# Altium footprint library QFN40P700X700X90-57N-D.PcbLib: 1 footprints
Each footprint in its own frame and in the unit in brackets; x right, y up, seen from the top. Pads: shape width x height; smd on the part's side, far side on the other; paste and mask are expansions set on the pad; w line width, h text height; cw(c..) or ccw(c..) is an arc to the next point about the centre after c.
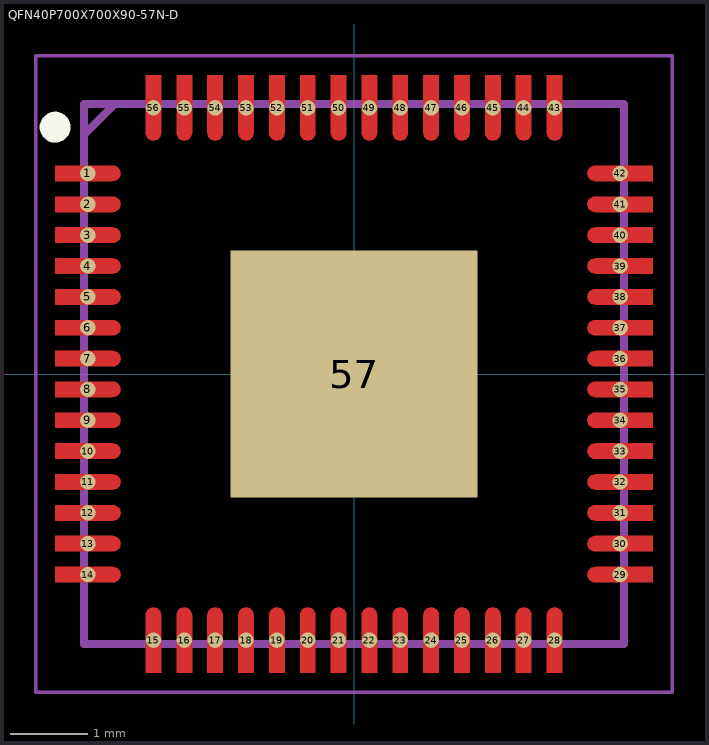
[diagram p0: the footprint, top view; thin cyan lines are the x and y axes]

## QFN40P700X700X90-57N-D [mm]
pads (57):
  round 0.2 smd: 1(-3.45,2.6) 2(-3.45,2.2) 3(-3.45,1.8) 4(-3.45,1.4) 5(-3.45,1) 6(-3.45,0.6) 7(-3.45,0.2) 8(-3.45,-0.2) 9(-3.45,-0.6) 10(-3.45,-1) 11(-3.45,-1.4) 12(-3.45,-1.8) 13(-3.45,-2.2) 14(-3.45,-2.6) 15(-2.6,-3.45) 16(-2.2,-3.45) 17(-1.8,-3.45) 18(-1.4,-3.45) 19(-1,-3.45) 20(-0.6,-3.45) 21(-0.2,-3.45) 22(0.2,-3.45) 23(0.6,-3.45) 24(1,-3.45) 25(1.4,-3.45) 26(1.8,-3.45) 27(2.2,-3.45) 28(2.6,-3.45) 29(3.45,-2.6) 30(3.45,-2.2) 31(3.45,-1.8) 32(3.45,-1.4) 33(3.45,-1) 34(3.45,-0.6) 35(3.45,-0.2) 36(3.45,0.2) 37(3.45,0.6) 38(3.45,1) 39(3.45,1.4) 40(3.45,1.8) 41(3.45,2.2) 42(3.45,2.6) 43(2.6,3.45) 44(2.2,3.45) 45(1.8,3.45) 46(1.4,3.45) 47(1,3.45) 48(0.6,3.45) 49(0.2,3.45) 50(-0.2,3.45) 51(-0.6,3.45) 52(-1,3.45) 53(-1.4,3.45) 54(-1.8,3.45) 55(-2.2,3.45) 56(-2.6,3.45)
  rect 3.2x3.2 smd: 57(0,0)
L1-Top Layer:
  region: -3.875,2.7 -3.125,2.7 -3.099,2.697 -3.075,2.687 -3.054,2.671 -3.038,2.65 -3.028,2.626 -3.025,2.6 -3.028,2.574 -3.038,2.55 -3.054,2.529 -3.075,2.513 -3.099,2.503 -3.125,2.5 -3.875,2.5
  region: -3.875,2.3 -3.125,2.3 -3.099,2.297 -3.075,2.287 -3.054,2.271 -3.038,2.25 -3.028,2.226 -3.025,2.2 -3.028,2.174 -3.038,2.15 -3.054,2.129 -3.075,2.113 -3.099,2.103 -3.125,2.1 -3.875,2.1
  region: -3.875,1.9 -3.125,1.9 -3.099,1.897 -3.075,1.887 -3.054,1.871 -3.038,1.85 -3.028,1.826 -3.025,1.8 -3.028,1.774 -3.038,1.75 -3.054,1.729 -3.075,1.713 -3.099,1.703 -3.125,1.7 -3.875,1.7
  region: -3.875,1.5 -3.125,1.5 -3.099,1.497 -3.075,1.487 -3.054,1.471 -3.038,1.45 -3.028,1.426 -3.025,1.4 -3.028,1.374 -3.038,1.35 -3.054,1.329 -3.075,1.313 -3.099,1.303 -3.125,1.3 -3.875,1.3
  region: -3.875,1.1 -3.125,1.1 -3.099,1.097 -3.075,1.087 -3.054,1.071 -3.038,1.05 -3.028,1.026 -3.025,1 -3.028,0.974 -3.038,0.95 -3.054,0.929 -3.075,0.913 -3.099,0.903 -3.125,0.9 -3.875,0.9
  region: -3.875,0.7 -3.125,0.7 -3.099,0.697 -3.075,0.687 -3.054,0.671 -3.038,0.65 -3.028,0.626 -3.025,0.6 -3.028,0.574 -3.038,0.55 -3.054,0.529 -3.075,0.513 -3.099,0.503 -3.125,0.5 -3.875,0.5
  region: -3.875,0.3 -3.125,0.3 -3.099,0.297 -3.075,0.287 -3.054,0.271 -3.038,0.25 -3.028,0.226 -3.025,0.2 -3.028,0.174 -3.038,0.15 -3.054,0.129 -3.075,0.113 -3.099,0.103 -3.125,0.1 -3.875,0.1
  region: -3.875,-0.1 -3.125,-0.1 -3.099,-0.103 -3.075,-0.113 -3.054,-0.129 -3.038,-0.15 -3.028,-0.174 -3.025,-0.2 -3.028,-0.226 -3.038,-0.25 -3.054,-0.271 -3.075,-0.287 -3.099,-0.297 -3.125,-0.3 -3.875,-0.3
  region: -3.875,-0.5 -3.125,-0.5 -3.099,-0.503 -3.075,-0.513 -3.054,-0.529 -3.038,-0.55 -3.028,-0.574 -3.025,-0.6 -3.028,-0.626 -3.038,-0.65 -3.054,-0.671 -3.075,-0.687 -3.099,-0.697 -3.125,-0.7 -3.875,-0.7
  region: -3.875,-0.9 -3.125,-0.9 -3.099,-0.903 -3.075,-0.913 -3.054,-0.929 -3.038,-0.95 -3.028,-0.974 -3.025,-1 -3.028,-1.026 -3.038,-1.05 -3.054,-1.071 -3.075,-1.087 -3.099,-1.097 -3.125,-1.1 -3.875,-1.1
  region: -3.875,-1.3 -3.125,-1.3 -3.099,-1.303 -3.075,-1.313 -3.054,-1.329 -3.038,-1.35 -3.028,-1.374 -3.025,-1.4 -3.028,-1.426 -3.038,-1.45 -3.054,-1.471 -3.075,-1.487 -3.099,-1.497 -3.125,-1.5 -3.875,-1.5
  region: -3.875,-1.7 -3.125,-1.7 -3.099,-1.703 -3.075,-1.713 -3.054,-1.729 -3.038,-1.75 -3.028,-1.774 -3.025,-1.8 -3.028,-1.826 -3.038,-1.85 -3.054,-1.871 -3.075,-1.887 -3.099,-1.897 -3.125,-1.9 -3.875,-1.9
  region: -3.875,-2.1 -3.125,-2.1 -3.099,-2.103 -3.075,-2.113 -3.054,-2.129 -3.038,-2.15 -3.028,-2.174 -3.025,-2.2 -3.028,-2.226 -3.038,-2.25 -3.054,-2.271 -3.075,-2.287 -3.099,-2.297 -3.125,-2.3 -3.875,-2.3
  region: -3.875,-2.5 -3.125,-2.5 -3.099,-2.503 -3.075,-2.513 -3.054,-2.529 -3.038,-2.55 -3.028,-2.574 -3.025,-2.6 -3.028,-2.626 -3.038,-2.65 -3.054,-2.671 -3.075,-2.687 -3.099,-2.697 -3.125,-2.7 -3.875,-2.7
  region: -2.7,-3.875 -2.7,-3.125 -2.697,-3.099 -2.687,-3.075 -2.671,-3.054 -2.65,-3.038 -2.626,-3.028 -2.6,-3.025 -2.574,-3.028 -2.55,-3.038 -2.529,-3.054 -2.513,-3.075 -2.503,-3.099 -2.5,-3.125 -2.5,-3.875
  region: -2.3,-3.875 -2.3,-3.125 -2.297,-3.099 -2.287,-3.075 -2.271,-3.054 -2.25,-3.038 -2.226,-3.028 -2.2,-3.025 -2.174,-3.028 -2.15,-3.038 -2.129,-3.054 -2.113,-3.075 -2.103,-3.099 -2.1,-3.125 -2.1,-3.875
  region: -1.9,-3.875 -1.9,-3.125 -1.897,-3.099 -1.887,-3.075 -1.871,-3.054 -1.85,-3.038 -1.826,-3.028 -1.8,-3.025 -1.774,-3.028 -1.75,-3.038 -1.729,-3.054 -1.713,-3.075 -1.703,-3.099 -1.7,-3.125 -1.7,-3.875
  region: -1.5,-3.875 -1.5,-3.125 -1.497,-3.099 -1.487,-3.075 -1.471,-3.054 -1.45,-3.038 -1.426,-3.028 -1.4,-3.025 -1.374,-3.028 -1.35,-3.038 -1.329,-3.054 -1.313,-3.075 -1.303,-3.099 -1.3,-3.125 -1.3,-3.875
  region: -1.1,-3.875 -1.1,-3.125 -1.097,-3.099 -1.087,-3.075 -1.071,-3.054 -1.05,-3.038 -1.026,-3.028 -1,-3.025 -0.974,-3.028 -0.95,-3.038 -0.929,-3.054 -0.913,-3.075 -0.903,-3.099 -0.9,-3.125 -0.9,-3.875
  region: -0.7,-3.875 -0.7,-3.125 -0.697,-3.099 -0.687,-3.075 -0.671,-3.054 -0.65,-3.038 -0.626,-3.028 -0.6,-3.025 -0.574,-3.028 -0.55,-3.038 -0.529,-3.054 -0.513,-3.075 -0.503,-3.099 -0.5,-3.125 -0.5,-3.875
  region: -0.3,-3.875 -0.3,-3.125 -0.297,-3.099 -0.287,-3.075 -0.271,-3.054 -0.25,-3.038 -0.226,-3.028 -0.2,-3.025 -0.174,-3.028 -0.15,-3.038 -0.129,-3.054 -0.113,-3.075 -0.103,-3.099 -0.1,-3.125 -0.1,-3.875
  region: 0.1,-3.875 0.1,-3.125 0.103,-3.099 0.113,-3.075 0.129,-3.054 0.15,-3.038 0.174,-3.028 0.2,-3.025 0.226,-3.028 0.25,-3.038 0.271,-3.054 0.287,-3.075 0.297,-3.099 0.3,-3.125 0.3,-3.875
  region: 0.5,-3.875 0.5,-3.125 0.503,-3.099 0.513,-3.075 0.529,-3.054 0.55,-3.038 0.574,-3.028 0.6,-3.025 0.626,-3.028 0.65,-3.038 0.671,-3.054 0.687,-3.075 0.697,-3.099 0.7,-3.125 0.7,-3.875
  region: 0.9,-3.875 0.9,-3.125 0.903,-3.099 0.913,-3.075 0.929,-3.054 0.95,-3.038 0.974,-3.028 1,-3.025 1.026,-3.028 1.05,-3.038 1.071,-3.054 1.087,-3.075 1.097,-3.099 1.1,-3.125 1.1,-3.875
  region: 1.3,-3.875 1.3,-3.125 1.303,-3.099 1.313,-3.075 1.329,-3.054 1.35,-3.038 1.374,-3.028 1.4,-3.025 1.426,-3.028 1.45,-3.038 1.471,-3.054 1.487,-3.075 1.497,-3.099 1.5,-3.125 1.5,-3.875
  region: 1.7,-3.875 1.7,-3.125 1.703,-3.099 1.713,-3.075 1.729,-3.054 1.75,-3.038 1.774,-3.028 1.8,-3.025 1.826,-3.028 1.85,-3.038 1.871,-3.054 1.887,-3.075 1.897,-3.099 1.9,-3.125 1.9,-3.875
  region: 2.1,-3.875 2.1,-3.125 2.103,-3.099 2.113,-3.075 2.129,-3.054 2.15,-3.038 2.174,-3.028 2.2,-3.025 2.226,-3.028 2.25,-3.038 2.271,-3.054 2.287,-3.075 2.297,-3.099 2.3,-3.125 2.3,-3.875
  region: 2.5,-3.875 2.5,-3.125 2.503,-3.099 2.513,-3.075 2.529,-3.054 2.55,-3.038 2.574,-3.028 2.6,-3.025 2.626,-3.028 2.65,-3.038 2.671,-3.054 2.687,-3.075 2.697,-3.099 2.7,-3.125 2.7,-3.875
  region: 3.875,-2.7 3.125,-2.7 3.099,-2.697 3.075,-2.687 3.054,-2.671 3.038,-2.65 3.028,-2.626 3.025,-2.6 3.028,-2.574 3.038,-2.55 3.054,-2.529 3.075,-2.513 3.099,-2.503 3.125,-2.5 3.875,-2.5
  region: 3.875,-2.3 3.125,-2.3 3.099,-2.297 3.075,-2.287 3.054,-2.271 3.038,-2.25 3.028,-2.226 3.025,-2.2 3.028,-2.174 3.038,-2.15 3.054,-2.129 3.075,-2.113 3.099,-2.103 3.125,-2.1 3.875,-2.1
  region: 3.875,-1.9 3.125,-1.9 3.099,-1.897 3.075,-1.887 3.054,-1.871 3.038,-1.85 3.028,-1.826 3.025,-1.8 3.028,-1.774 3.038,-1.75 3.054,-1.729 3.075,-1.713 3.099,-1.703 3.125,-1.7 3.875,-1.7
  region: 3.875,-1.5 3.125,-1.5 3.099,-1.497 3.075,-1.487 3.054,-1.471 3.038,-1.45 3.028,-1.426 3.025,-1.4 3.028,-1.374 3.038,-1.35 3.054,-1.329 3.075,-1.313 3.099,-1.303 3.125,-1.3 3.875,-1.3
  region: 3.875,-1.1 3.125,-1.1 3.099,-1.097 3.075,-1.087 3.054,-1.071 3.038,-1.05 3.028,-1.026 3.025,-1 3.028,-0.974 3.038,-0.95 3.054,-0.929 3.075,-0.913 3.099,-0.903 3.125,-0.9 3.875,-0.9
  region: 3.875,-0.7 3.125,-0.7 3.099,-0.697 3.075,-0.687 3.054,-0.671 3.038,-0.65 3.028,-0.626 3.025,-0.6 3.028,-0.574 3.038,-0.55 3.054,-0.529 3.075,-0.513 3.099,-0.503 3.125,-0.5 3.875,-0.5
  region: 3.875,-0.3 3.125,-0.3 3.099,-0.297 3.075,-0.287 3.054,-0.271 3.038,-0.25 3.028,-0.226 3.025,-0.2 3.028,-0.174 3.038,-0.15 3.054,-0.129 3.075,-0.113 3.099,-0.103 3.125,-0.1 3.875,-0.1
  region: 3.875,0.1 3.125,0.1 3.099,0.103 3.075,0.113 3.054,0.129 3.038,0.15 3.028,0.174 3.025,0.2 3.028,0.226 3.038,0.25 3.054,0.271 3.075,0.287 3.099,0.297 3.125,0.3 3.875,0.3
  region: 3.875,0.5 3.125,0.5 3.099,0.503 3.075,0.513 3.054,0.529 3.038,0.55 3.028,0.574 3.025,0.6 3.028,0.626 3.038,0.65 3.054,0.671 3.075,0.687 3.099,0.697 3.125,0.7 3.875,0.7
  region: 3.875,0.9 3.125,0.9 3.099,0.903 3.075,0.913 3.054,0.929 3.038,0.95 3.028,0.974 3.025,1 3.028,1.026 3.038,1.05 3.054,1.071 3.075,1.087 3.099,1.097 3.125,1.1 3.875,1.1
  region: 3.875,1.3 3.125,1.3 3.099,1.303 3.075,1.313 3.054,1.329 3.038,1.35 3.028,1.374 3.025,1.4 3.028,1.426 3.038,1.45 3.054,1.471 3.075,1.487 3.099,1.497 3.125,1.5 3.875,1.5
  region: 3.875,1.7 3.125,1.7 3.099,1.703 3.075,1.713 3.054,1.729 3.038,1.75 3.028,1.774 3.025,1.8 3.028,1.826 3.038,1.85 3.054,1.871 3.075,1.887 3.099,1.897 3.125,1.9 3.875,1.9
  region: 3.875,2.1 3.125,2.1 3.099,2.103 3.075,2.113 3.054,2.129 3.038,2.15 3.028,2.174 3.025,2.2 3.028,2.226 3.038,2.25 3.054,2.271 3.075,2.287 3.099,2.297 3.125,2.3 3.875,2.3
  region: 3.875,2.5 3.125,2.5 3.099,2.503 3.075,2.513 3.054,2.529 3.038,2.55 3.028,2.574 3.025,2.6 3.028,2.626 3.038,2.65 3.054,2.671 3.075,2.687 3.099,2.697 3.125,2.7 3.875,2.7
  region: 2.7,3.875 2.7,3.125 2.697,3.099 2.687,3.075 2.671,3.054 2.65,3.038 2.626,3.028 2.6,3.025 2.574,3.028 2.55,3.038 2.529,3.054 2.513,3.075 2.503,3.099 2.5,3.125 2.5,3.875
  region: 2.3,3.875 2.3,3.125 2.297,3.099 2.287,3.075 2.271,3.054 2.25,3.038 2.226,3.028 2.2,3.025 2.174,3.028 2.15,3.038 2.129,3.054 2.113,3.075 2.103,3.099 2.1,3.125 2.1,3.875
  region: 1.9,3.875 1.9,3.125 1.897,3.099 1.887,3.075 1.871,3.054 1.85,3.038 1.826,3.028 1.8,3.025 1.774,3.028 1.75,3.038 1.729,3.054 1.713,3.075 1.703,3.099 1.7,3.125 1.7,3.875
  region: 1.5,3.875 1.5,3.125 1.497,3.099 1.487,3.075 1.471,3.054 1.45,3.038 1.426,3.028 1.4,3.025 1.374,3.028 1.35,3.038 1.329,3.054 1.313,3.075 1.303,3.099 1.3,3.125 1.3,3.875
  region: 1.1,3.875 1.1,3.125 1.097,3.099 1.087,3.075 1.071,3.054 1.05,3.038 1.026,3.028 1,3.025 0.974,3.028 0.95,3.038 0.929,3.054 0.913,3.075 0.903,3.099 0.9,3.125 0.9,3.875
  region: 0.7,3.875 0.7,3.125 0.697,3.099 0.687,3.075 0.671,3.054 0.65,3.038 0.626,3.028 0.6,3.025 0.574,3.028 0.55,3.038 0.529,3.054 0.513,3.075 0.503,3.099 0.5,3.125 0.5,3.875
  region: 0.3,3.875 0.3,3.125 0.297,3.099 0.287,3.075 0.271,3.054 0.25,3.038 0.226,3.028 0.2,3.025 0.174,3.028 0.15,3.038 0.129,3.054 0.113,3.075 0.103,3.099 0.1,3.125 0.1,3.875
  region: -0.1,3.875 -0.1,3.125 -0.103,3.099 -0.113,3.075 -0.129,3.054 -0.15,3.038 -0.174,3.028 -0.2,3.025 -0.226,3.028 -0.25,3.038 -0.271,3.054 -0.287,3.075 -0.297,3.099 -0.3,3.125 -0.3,3.875
  region: -0.5,3.875 -0.5,3.125 -0.503,3.099 -0.513,3.075 -0.529,3.054 -0.55,3.038 -0.574,3.028 -0.6,3.025 -0.626,3.028 -0.65,3.038 -0.671,3.054 -0.687,3.075 -0.697,3.099 -0.7,3.125 -0.7,3.875
  region: -0.9,3.875 -0.9,3.125 -0.903,3.099 -0.913,3.075 -0.929,3.054 -0.95,3.038 -0.974,3.028 -1,3.025 -1.026,3.028 -1.05,3.038 -1.071,3.054 -1.087,3.075 -1.097,3.099 -1.1,3.125 -1.1,3.875
  region: -1.3,3.875 -1.3,3.125 -1.303,3.099 -1.313,3.075 -1.329,3.054 -1.35,3.038 -1.374,3.028 -1.4,3.025 -1.426,3.028 -1.45,3.038 -1.471,3.054 -1.487,3.075 -1.497,3.099 -1.5,3.125 -1.5,3.875
  region: -1.7,3.875 -1.7,3.125 -1.703,3.099 -1.713,3.075 -1.729,3.054 -1.75,3.038 -1.774,3.028 -1.8,3.025 -1.826,3.028 -1.85,3.038 -1.871,3.054 -1.887,3.075 -1.897,3.099 -1.9,3.125 -1.9,3.875
  region: -2.1,3.875 -2.1,3.125 -2.103,3.099 -2.113,3.075 -2.129,3.054 -2.15,3.038 -2.174,3.028 -2.2,3.025 -2.226,3.028 -2.25,3.038 -2.271,3.054 -2.287,3.075 -2.297,3.099 -2.3,3.125 -2.3,3.875
  region: -2.5,3.875 -2.5,3.125 -2.503,3.099 -2.513,3.075 -2.529,3.054 -2.55,3.038 -2.574,3.028 -2.6,3.025 -2.626,3.028 -2.65,3.038 -2.671,3.054 -2.687,3.075 -2.697,3.099 -2.7,3.125 -2.7,3.875
Top Overlay:
  circle w0.2: c-3.875,3.2 r0.1
Mechanical 15:
  lines w0.1: -3.5,3.1 -3.1,3.5 ; -3.5,-3.5 3.5,-3.5 3.5,3.5 -3.5,3.5 -3.5,-3.5
Mechanical 20:
  lines w0.05: -4.125,-4.125 4.125,-4.125 4.125,4.125 -4.125,4.125 -4.125,-4.125